# Altium integrated library CR2032-BS-6-1.IntLib: 1 symbol
Pins are listed as number, name and electrical type; pins without a type are passive.

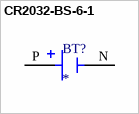
[diagram p0: symbol CR2032-BS-6-1]

## CR2032-BS-6-1
designator BT?
Battery base CR2032 SMD Battery Connectors ROHS; MP: CR2032-BS-6-1; MF: Shenzhen Q&J Electronics Co. Ltd; Package: Package; Check_prices: https://www.snapeda.com/parts/CR2032-BS-6-1/Shenzhen+Q%2526J+Electronics+Co.+Ltd/view-part/?ref=eda; SnapEDA_Link: https://www.snapeda.com/parts/CR2032-BS-6-1/Shenzhen+Q%2526J+Electronics+Co.+Ltd/view-part/?ref=snap; Value: *; Availability: Not in stock; Price: None
footprint BAT_CR2032-BS-6-1
pins: N NEG, P POS